# Altium footprint library SC_SOIC8.PcbLib: 1 footprints
Each footprint in its own frame and in the unit in brackets; x right, y up, seen from the top. Pads: shape width x height; smd on the part's side, far side on the other; paste and mask are expansions set on the pad; w line width, h text height; cw(c..) or ccw(c..) is an arc to the next point about the centre after c.
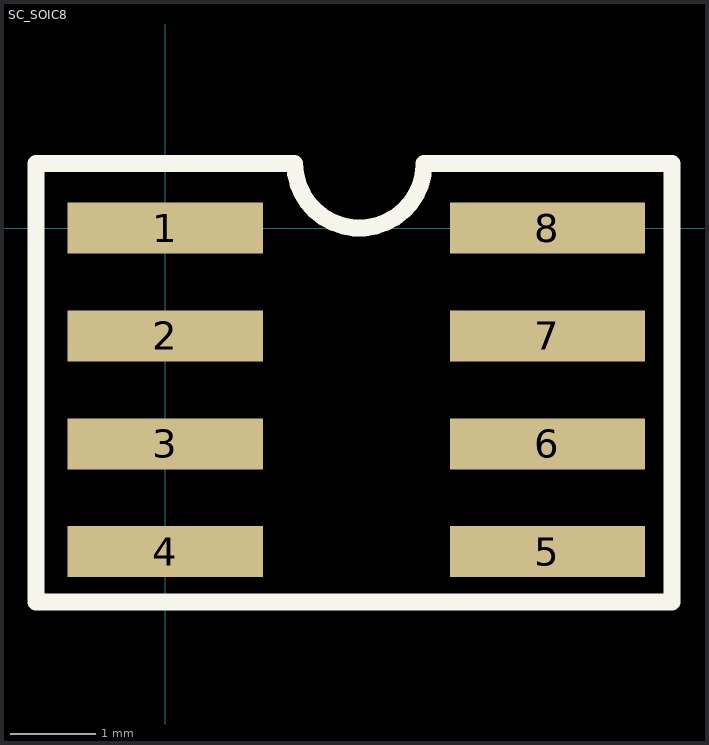
[diagram p0: the footprint, top view; thin cyan lines are the x and y axes]

## SC_SOIC8 [mm] "8-Pin Small Outline Integrated Circuit 1.27 mm Pitch, IPC High Density"
height 1.75
pads (8):
  rect 2.3x0.6 smd: 1(0,0) 2(0,-1.27) 3(0,-2.54) 4(0,-3.81) 5(4.5,-3.81) 6(4.5,-2.54) 7(4.5,-1.27) 8(4.5,0)
Top Overlay:
  lines w0.2: -1.524,-4.405 5.969,-4.405 5.969,0.762 3.302,0.762 3.048,0.762 cw(c2.286,0.762) 1.524,0.762 1.27,0.762 -1.524,0.762 -1.524,-4.405
3D body "User Library-so8.step": height 1.68, standoff 0, extent -0.737,-4.355 5.309,0.545